# Altium schematic symbol library Modular Ring.SchLib: 20 symbols
Pins are listed as number, name and electrical type; pins without a type are passive.

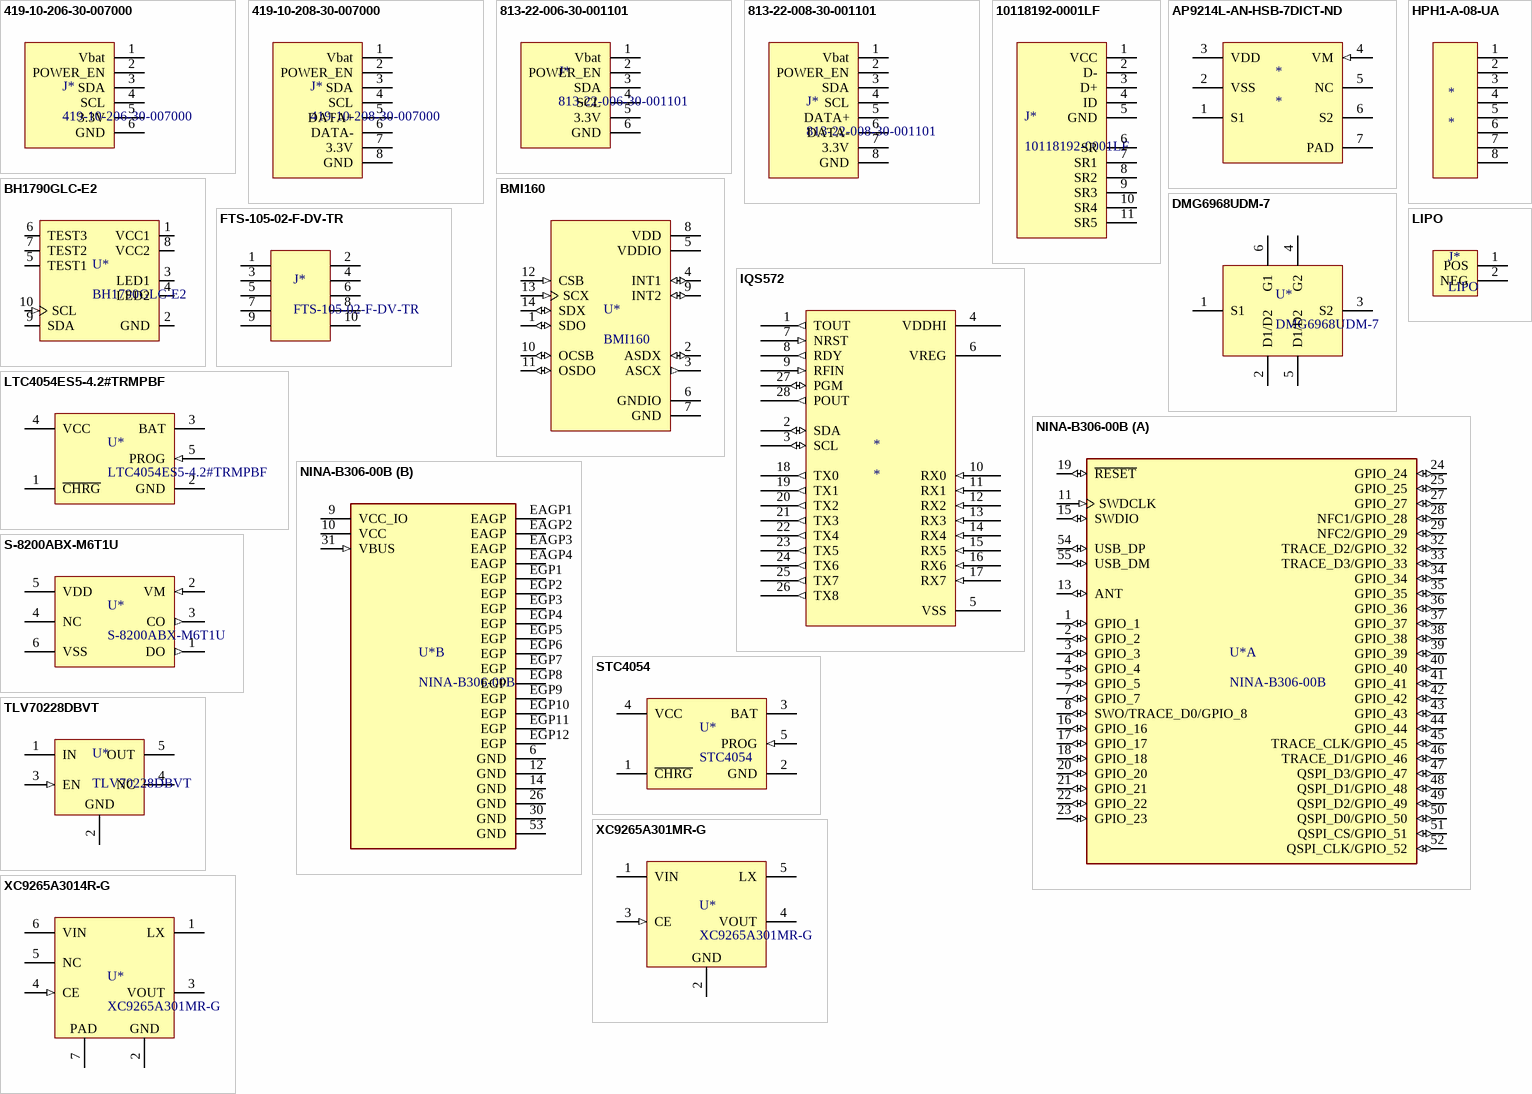
[diagram p0: symbols 419-10-206-30-007000 to XC9265A3014R-G]

## 419-10-206-30-007000
designator J*
footprint 419-10-206-30-007000
pins: 1 Vbat, 2 POWER_EN, 3 SDA, 4 SCL, 5 3.3V, 6 GND

## 419-10-208-30-007000
designator J*
pins: 1 Vbat, 2 POWER_EN, 3 SDA, 4 SCL, 5 DATA+, 6 DATA-, 7 3.3V, 8 GND

## 813-22-006-30-001101
designator J*
footprint 813-22-006-30-001101
pins: 1 Vbat, 2 POWER_EN, 3 SDA, 4 SCL, 5 3.3V, 6 GND

## 813-22-008-30-001101
designator J*
pins: 1 Vbat, 2 POWER_EN, 3 SDA, 4 SCL, 5 DATA+, 6 DATA-, 7 3.3V, 8 GND

## 10118192-0001LF
designator J*
footprint 10118192-0001LF
pins: 1 VCC, 2 D-, 3 D+, 4 ID, 5 GND, 6 SR, 7 SR1, 8 SR2, 9 SR3, 10 SR4, 11 SR5

## AP9214L-AN-HSB-7DICT-ND
designator *
footprint AP9214L-AN-HSB-7DICT-ND
pins: 1 S1 (power), 2 VSS, 3 VDD, 4 VM (in), 5 NC, 6 S2 (power), 7 PAD

## BH1790GLC-E2
designator U*
footprint BH1790GLC-E2
pins: 1 VCC1 (power), 2 GND (power), 3 LED1, 4 LED2, 5 TEST1, 6 TEST3, 7 TEST2, 8 VCC2 (power), 9 SDA (io), 10 SCL (in)

## BMI160
designator U*
footprint BMI160
pins: 1 SDO (io), 2 ASDX (io), 3 ASCX (out), 4 INT1 (io), 5 VDDIO (power), 6 GNDIO (power), 7 GND (power), 8 VDD (power), 9 INT2 (io), 10 OCSB (io), 11 OSDO (io), 12 CSB (in), 13 SCX (in), 14 SDX (io)

## DMG6968UDM-7
designator U*
footprint DMG6968UDM-7
pins: 1 S1, 2 D1/D2, 3 S2, 4 G2, 5 D1/D2, 6 G1

## FTS-105-02-F-DV-TR
designator J*
footprint FTS-105-02-F-DV-TR
pins: 1, 2, 3, 4, 5, 6, 7, 8, 9, 10

## HPH1-A-08-UA
designator *
footprint HPH1-A-08-UA
pins: 1, 2, 3, 4, 5, 6, 7, 8

## IQS572
designator *
footprint IQS572
pins: 1 TOUT (out), 2 SDA (io), 3 SCL (io), 4 VDDHI (power), 5 VSS (power), 6 VREG (power), 7 NRST (in), 8 RDY (out), 9 RFIN (in), 10 RX0 (in), 11 RX1 (in), 12 RX2 (in), 13 RX3 (in), 14 RX4 (in), 15 RX5 (in), 16 RX6 (in), 17 RX7 (in), 18 TX0 (out), 19 TX1 (out), 20 TX2 (out), 21 TX3 (out), 22 TX4 (out), 23 TX5 (out), 24 TX6 (out), 25 TX7 (out), 26 TX8 (out), 27 PGM (io), 28 POUT (out)

## LIPO
designator J*
footprint LIPO
pins: 1 POS, 2 NEG

## LTC4054ES5-4.2#TRMPBF
designator U*
footprint LTC4054ES5-4.2#TRMPBF
pins: 1 ~{CHRG} (hiz), 2 GND (power) "Ground.", 3 BAT (power) "Charge Current Output. Provides charge current to the battery and regulates the final float voltage to 4.2V. An internal precision resistor divider from this pin sets the float voltage which is disconnected in shutdown mode.", 4 VCC (power), 5 PROG (in) "Charge Current Program, Charge Current Monitor and Shutdown Pin. The charge current is programmed by connecting a 1% resistor, RPROG, to ground. When charging in constant-current mode, this pin servos to 1V. In all modes, (See Datasheet)"

## NINA-B306-00B
designator U*
footprint NINA-B306-00B
part A pins: 1 GPIO_1 (io), 2 GPIO_2 (io), 3 GPIO_3 (io), 4 GPIO_4 (io), 5 GPIO_5 (io), 7 GPIO_7 (io), 8 SWO/TRACE_D0/GPIO_8 (io), 11 SWDCLK (in), 13 ANT (io), 15 SWDIO (io), 16 GPIO_16 (io), 17 GPIO_17 (io), 18 GPIO_18 (io), 19 ~{RESET} (io), 20 GPIO_20 (io), 21 GPIO_21 (io), 22 GPIO_22 (io), 23 GPIO_23 (io), 24 GPIO_24 (io), 25 GPIO_25 (io), 27 GPIO_27 (io), 28 NFC1/GPIO_28 (io), 29 NFC2/GPIO_29 (io), 32 TRACE_D2/GPIO_32 (io), 33 TRACE_D3/GPIO_33 (io), 34 GPIO_34 (io), 35 GPIO_35 (io), 36 GPIO_36 (io), 37 GPIO_37 (io), 38 GPIO_38 (io), 39 GPIO_39 (io), 40 GPIO_40 (io), 41 GPIO_41 (io), 42 GPIO_42 (io), 43 GPIO_43 (io), 44 GPIO_44 (io), 45 TRACE_CLK/GPIO_45 (io), 46 TRACE_D1/GPIO_46 (io), 47 QSPI_D3/GPIO_47 (io), 48 QSPI_D1/GPIO_48 (io), 49 QSPI_D2/GPIO_49 (io), 50 QSPI_D0/GPIO_50 (io), 51 QSPI_CS/GPIO_51 (io), 52 QSPI_CLK/GPIO_52 (io), 54 USB_DP (io), 55 USB_DM (io)
part B pins: 6 GND (power), 9 VCC_IO (power), 10 VCC (power), 12 GND (power), 14 GND (power), 26 GND (power), 30 GND (power), 31 VBUS (in), 53 GND (power), EAGP1 EAGP (power), EAGP2 EAGP (power), EAGP3 EAGP (power), EAGP4 EAGP (power), EGP1 EGP (power), EGP2 EGP (power), EGP3 EGP (power), EGP4 EGP (power), EGP5 EGP (power), EGP6 EGP (power), EGP7 EGP (power), EGP8 EGP (power), EGP9 EGP (power), EGP10 EGP (power), EGP11 EGP (power), EGP12 EGP (power)

## S-8200ABX-M6T1U
designator U*
footprint S-8200ABX-M6T1U
pins: 1 DO (out), 2 VM (in), 3 CO (out), 4 NC, 5 VDD, 6 VSS

## STC4054
designator U*
footprint STC4054
pins: 1 ~{CHRG} (hiz), 2 GND (power) "Ground.", 3 BAT (power) "Charge Current Output. Provides charge current to the battery and regulates the final float voltage to 4.2V. An internal precision resistor divider from this pin sets the float voltage which is disconnected in shutdown mode.", 4 VCC (power), 5 PROG (in) "Charge Current Program, Charge Current Monitor and Shutdown Pin. The charge current is programmed by connecting a 1% resistor, RPROG, to ground. When charging in constant-current mode, this pin servos to 1V. In all modes, (See Datasheet)"

## TLV70228DBVT
designator U*
footprint TLV70228DBVT
pins: 1 IN (power) "Input supply voltage", 2 GND (power) "Ground", 3 EN (in) "Enable input", 4 NC "No connected", 5 OUT (power) "Regulated output voltage"

## XC9265A301MR-G
designator U*
footprint XC9265A301MR-G
pins: 1 VIN (power), 2 GND (power), 3 CE (in), 4 VOUT (power), 5 LX (power)

## XC9265A3014R-G
designator U*, comment XC9265A301MR-G
footprint XC9265A3014R-G
pins: 1 LX (power), 2 GND (power), 3 VOUT (power), 4 CE (in), 5 NC, 6 VIN (power), 7 GND (power)
text: PAD